# Altium footprint library diode.pcblib: 31 footprints (part 1 of 2)
Each footprint in its own frame and in the unit in brackets; x right, y up, seen from the top. Pads: shape width x height; smd on the part's side, far side on the other; paste and mask are expansions set on the pad; w line width, h text height; cw(c..) or ccw(c..) is an arc to the next point about the centre after c.
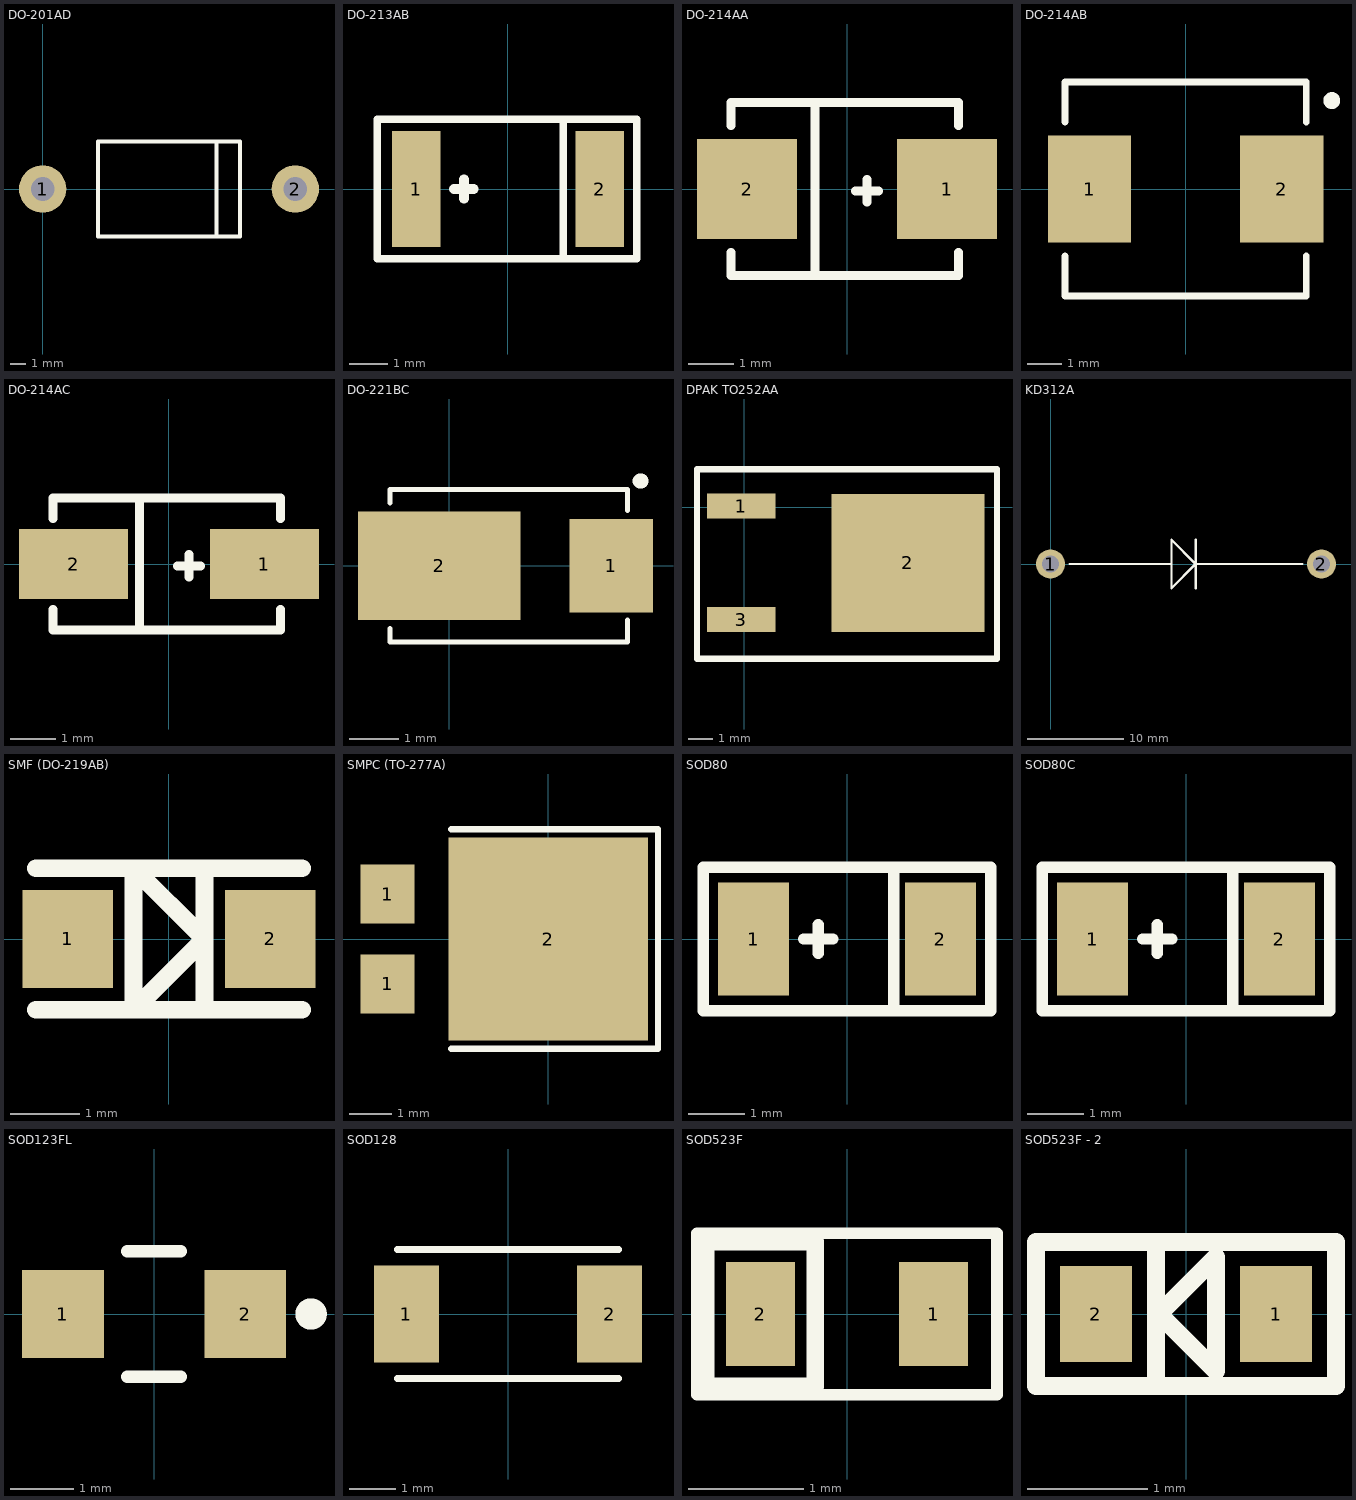
[diagram p0: the footprints below, top view; thin cyan lines are the x and y axes]

## DO-201AD [mm]
pads (2):
  round 3 hole 1.5: 1(0,0) 2(16,0)
Top Overlay:
  lines w0.254: 11,-3 11,3 ; 3.5,-3 12.5,-3 12.5,3 3.5,3 3.5,-3
3D body "1N5406G.STEP": height 6.35, standoff -3.83, extent -0.565,-3.175 16.565,3.175

## DO-213AB [mm]
height 4
pads (2):
  rect 1.25x3 smd: 1(-2.375,0) 2(2.375,0)
Top Overlay:
  lines w0.2: 1.425,-1.8 1.425,1.8 ; -3.375,-1.8 3.325,-1.8 3.325,1.8 -3.375,1.8 -3.375,-1.8
  lines w0.254: -1.391,0 -0.883,0 ; -1.137,-0.254 -1.137,0.254
3D body "DO-213AB.step": height 2.67, standoff 0, extent -2.6,-1.335 2.6,1.335

## DO-214AA [mm]
height 4
pads (2):
  rect 2.2x2.2 smd: 1(2.2,0) 2(-2.2,0)
Top Overlay:
  lines w0.2: -2.55,-1.4 -2.55,-1.9 2.45,-1.9 2.45,-1.4 ; -2.55,1.4 -2.55,1.9 2.45,1.9 2.45,1.4 ; -0.7,-1.9 -0.7,1.9 ; 0.19,-0.04 0.69,-0.04 ; 0.44,-0.29 0.44,0.21
3D body "DO-214AA.step": height 2.3, standoff 0, extent -2.75,-1.8 2.65,1.8

## DO-214AB [mm]
height 2.62
pads (2):
  rect 2.45x3.15 smd: 1(-2.825,0) 2(2.825,0)
Top Overlay:
  circle w0.25: c4.3,2.6 r0.125
  lines w0.2: -3.55,-1.975 -3.55,-3.15 3.55,-3.15 3.55,-1.975 ; -3.55,1.975 -3.55,3.15 3.55,3.15 3.55,1.975
3D body "User Library-DIOM8261X24.step": height 2.4, standoff 0.03, extent -4.065,-3.05 4.065,3.05

## DO-214AC [mm]
height 4
pads (2):
  rect 2.4x1.55 smd: 1(2.1,0) 2(-2.1,0)
Top Overlay:
  lines w0.2: -2.55,-1 -2.55,-1.45 2.45,-1.45 2.45,-1 ; -2.55,1 -2.55,1.45 2.45,1.45 2.45,1 ; -0.65,-1.45 -0.65,1.45 ; 0.19,-0.04 0.69,-0.04 ; 0.44,-0.29 0.44,0.21
3D body "DO-214AC SMA.step": height 2.39, standoff -0.01, extent -2.6,-1.3 2.6,1.3

## DO-221BC [mm]
pads (2):
  rect 1.7x1.9 smd: 1(3.29,0)
  rect 3.3x2.2 smd: 2(-0.2,0)
Top Overlay:
  lines w0.1: -1.2,-1.275 -1.2,-1.55 3.625,-1.55 ; -1.2,1.275 -1.2,1.55 3.625,1.55 3.625,1.125 ; 3.625,-1.525 3.625,-1.1
  lines w0.3: 3.875,1.725 3.9,1.725
3D body "DO-221BC.stp": height 1.1, standoff 0, extent -1.55,-1.475 4.05,1.475

## DPAK TO252AA [mm]
height 4
pads (3):
  rect 2.75x1 smd: 1(-0.12,0.04) 3(-0.12,-4.52)
  rect 6.15x5.55 smd: 2(6.58,-2.24)
Top Overlay:
  lines w0.254: -1.905,-6.096 10.16,-6.096 10.16,1.524 -1.905,1.524 -1.905,-6.096
3D body "User Library-DPAK-1.step": height 2.34, standoff -0.07, extent -0.985,-5.505 8.954,1.035

## KD312A [mm]
pads (2):
  round 3 hole 1.8: 1(0,0) 2(28,0)
Top Overlay:
  lines w0.254: 2,0 12.5,0 ; 15,-2.5 15,2.5 ; 26,0 15,0 ; 15,0 12.5,-2.5 12.5,2.5 15,0
3D body "KD213A.stp": height 4.5, standoff -4.28, extent -0.51,-7.005 28.51,7.005

## SMF (DO-219AB) [mm] "SODFL, 2-Leads, Body 1.90x2.9mm"
height 1.08
pads (2):
  rect 1.3x1.4 smd: 1(-1.45,0) 2(1.45,0)
Top Overlay:
  lines w0.254: -1.905,-1.016 1.905,-1.016 ; -1.905,1.016 1.905,1.016 ; 0.508,-1.016 0.508,1.016 ; -0.508,-0.889 -0.508,1.016 0.508,0 -0.381,-0.889 -0.508,-0.889
3D body "SODFL370X108-2L.step": height 1.08, standoff 0, extent -1.85,-0.95 1.85,0.95

## SMPC (TO-277A) [mm]
pads (3):
  rect 1.27x1.4 smd mask+0.05: 1(-3.805,-1.065) 1(-3.805,1.065)
  rect 4.72x4.8 smd mask+0.05: 2(0,0)
Top Overlay:
  lines w0.15: -2.3,-2.6 2.6,-2.6 2.6,-2.5 2.6,2.6 -2.3,2.6
3D body "User Library-TO-277A(SMPC).step": height 1.2, standoff 0, extent -4.35,-2.375 2.3,2.375

## SOD80 [mm]
height 1
pads (2):
  rect 1.25x2 smd: 1(-1.651,0) 2(1.651,0)
Top Overlay:
  lines w0.2: -0.762,0 -0.254,0 ; -0.508,-0.254 -0.508,0.254 ; 0.825,-1.27 0.825,1.27 ; -2.54,-1.27 2.54,-1.27 2.54,1.27 -2.54,1.27 -2.54,-1.27
3D body "SOD80.step": height 1.61, standoff 0.01, extent -1.844,-0.8 1.857,0.8

## SOD80C [mm]
height 1
pads (2):
  rect 1.25x2 smd: 1(-1.651,0) 2(1.651,0)
Top Overlay:
  lines w0.2: -0.762,0 -0.254,0 ; -0.508,-0.254 -0.508,0.254 ; 0.825,-1.27 0.825,1.27 ; -2.54,-1.27 2.54,-1.27 2.54,1.27 -2.54,1.27 -2.54,-1.27
3D body "SOD80C-1.STEP": height 1.6, standoff 0, extent -1.846,-0.8 1.854,0.8

## SOD123FL [mm]
pads (2):
  rect 1.3x1.4 smd paste+0 mask+0: 1(-1.45,0) 2(1.45,0)
Top Overlay:
  circle w0.25: c2.5,0 r0.125
  lines w0.2: -0.425,-1 0.425,-1 ; -0.425,1 0.425,1
3D body "Diode_Littelfuse_SMF100A-T13_eec.STEP": height 1.1, standoff 0, extent -1.827,-0.879 1.823,0.871

## SOD128 [mm]
height 1
pads (2):
  rect 1.4x2.1 smd: 1(-2.2,0) 2(2.2,0)
Top Overlay:
  lines w0.15: -2.4,-1.4 2.4,-1.4 ; -2.4,1.4 2.4,1.4
3D body "User Library-SOD128.step": height 1.1, standoff -0.01, extent -2.5,-1.35 2.5,1.35

## SOD523F [mm]
pads (2):
  rect 0.6x0.9 smd: 1(0.75,0) 2(-0.75,0)
Top Overlay:
  lines w0.1: -1.3,-0.7 1.3,-0.7 1.3,0.7 -1.3,0.7 -1.3,-0.7
  lines w0.15: -0.775,0.625 -0.3,0.625 -0.275,0.6 ; -0.6,-0.675 -0.6,-0.625 ; -0.575,0.65 -0.575,0.625 -1.225,0.625 -1.225,-0.625 -0.6,-0.625 ; -0.275,0.625 -0.275,0.6 ; -0.6,-0.625 -0.275,-0.625 -0.275,0.6
3D body "User Library-CDSU101A.STEP": height 0.85, standoff 0, extent -0.9,-0.5 0.9,0.5

## SOD523F - 2 [mm]
pads (2):
  rect 0.6x0.8 smd: 1(0.75,0) 2(-0.75,0)
Top Overlay:
  lines w0.15: -0.25,-0.575 -0.25,0.525 ; -1.25,-0.6 -1.25,0.6 1.25,0.6 1.25,-0.6 -1.25,-0.6 ; -0.25,-0.025 0.25,0.475 0.25,-0.475 -0.2,-0.025 -0.25,-0.025
3D body "User Library-SOD-523F.step": height 0.7, standoff 0, extent -0.8,-0.399 0.8,0.399